# Altium integrated library EMK316BJ226KL-T.IntLib: 1 symbol
Pins are listed as number, name and electrical type; pins without a type are passive.

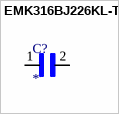
[diagram p0: symbol EMK316BJ226KL-T]

## EMK316BJ226KL-T
designator C?
Cap Ceramic 22uF 16V X5R 10% Pad SMD 1206 85C T/R; MP: EMK316BJ226KL-T; Package: None; Price: None; Value: *; Availability: Unavailable
footprint CAPC3216X180N
pins: 1, 2